# EAGLE library part TOROID_7VA (library wheat)
XFMR, TOROID, 7VA PCB TALEMA
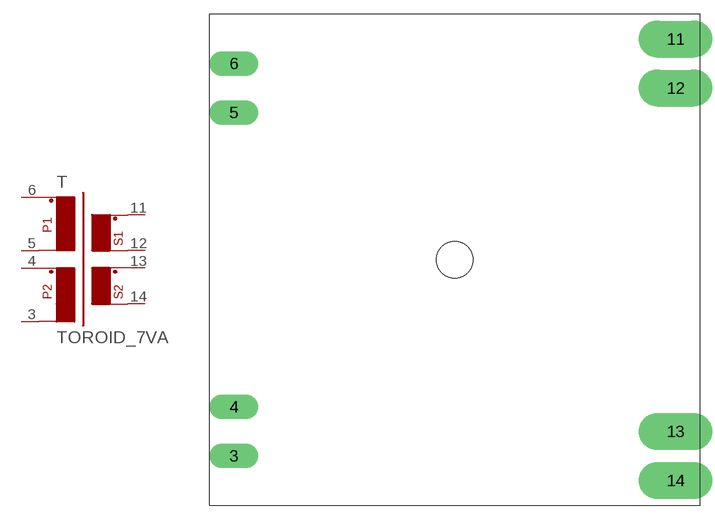
[diagram p6: symbol with the pads of TOROID_7VA; footprint TOROID_7VA]

Designator prefix T

## TOROID_7VA  [TOROID_7VA]
3  3  pas
4  4  pas
5  5  pas
6  6  pas
11  11  pas
12  12  pas
13  13  pas
14  14  pas

## Footprint TOROID_7VA (pad centres in mm)
XFMR, TOROID, 7VA PCB TALEMA
drill 1.422 pad 2.54 long: 3 -22.86,-20.32; 4 -22.86,-15.24; 5 -22.86,15.24; 6 -22.86,20.32
drill 1.422 pad 3.81 long: 11 22.86,22.86; 12 22.86,17.78; 13 22.86,-17.78; 14 22.86,-22.86
hole 3.81 at 0,0